# EAGLE library part TIL311 (library opto)
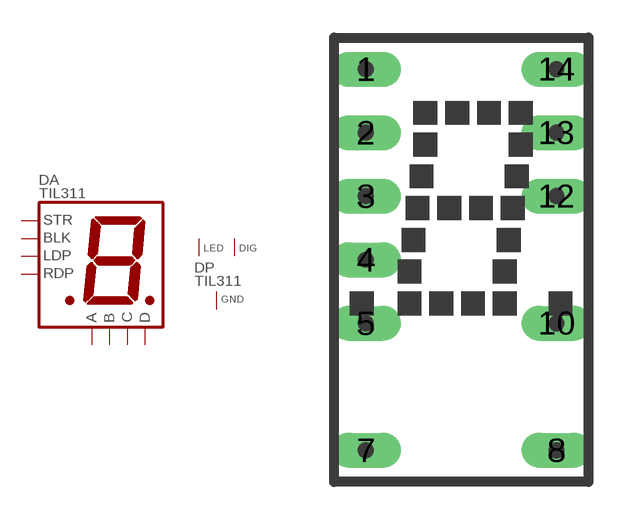
[diagram p5: symbol with the pads of D_TIL311; footprint D_TIL311]

Designator prefix D; gates A=D_TIL311 P=VTIL311

## TIL311  [D_TIL311]
1  P:LED  pwr
2  A:B  in
3  A:A  in
4  A:LDP  pas
5  A:STR  in
7  P:GND  pwr
8  A:BLK  in
10  A:RDP  pas
12  A:D  in
13  A:C  in
14  P:DIG  pwr

## Footprint D_TIL311 (pad centres in mm)
drill 0.813 pad 1.397 long: 1 0,0; 2 0,-2.54; 3 0,-5.08; 4 0,-7.62; 5 0,-10.16; 7 0,-15.24; 8 7.62,-15.24; 10 7.62,-10.16; 12 7.62,-5.08; 13 7.62,-2.54; 14 7.62,0